# Altium integrated library optocoupler.IntLib: 121 symbols
Pins are listed as number, name and electrical type; pins without a type are passive.

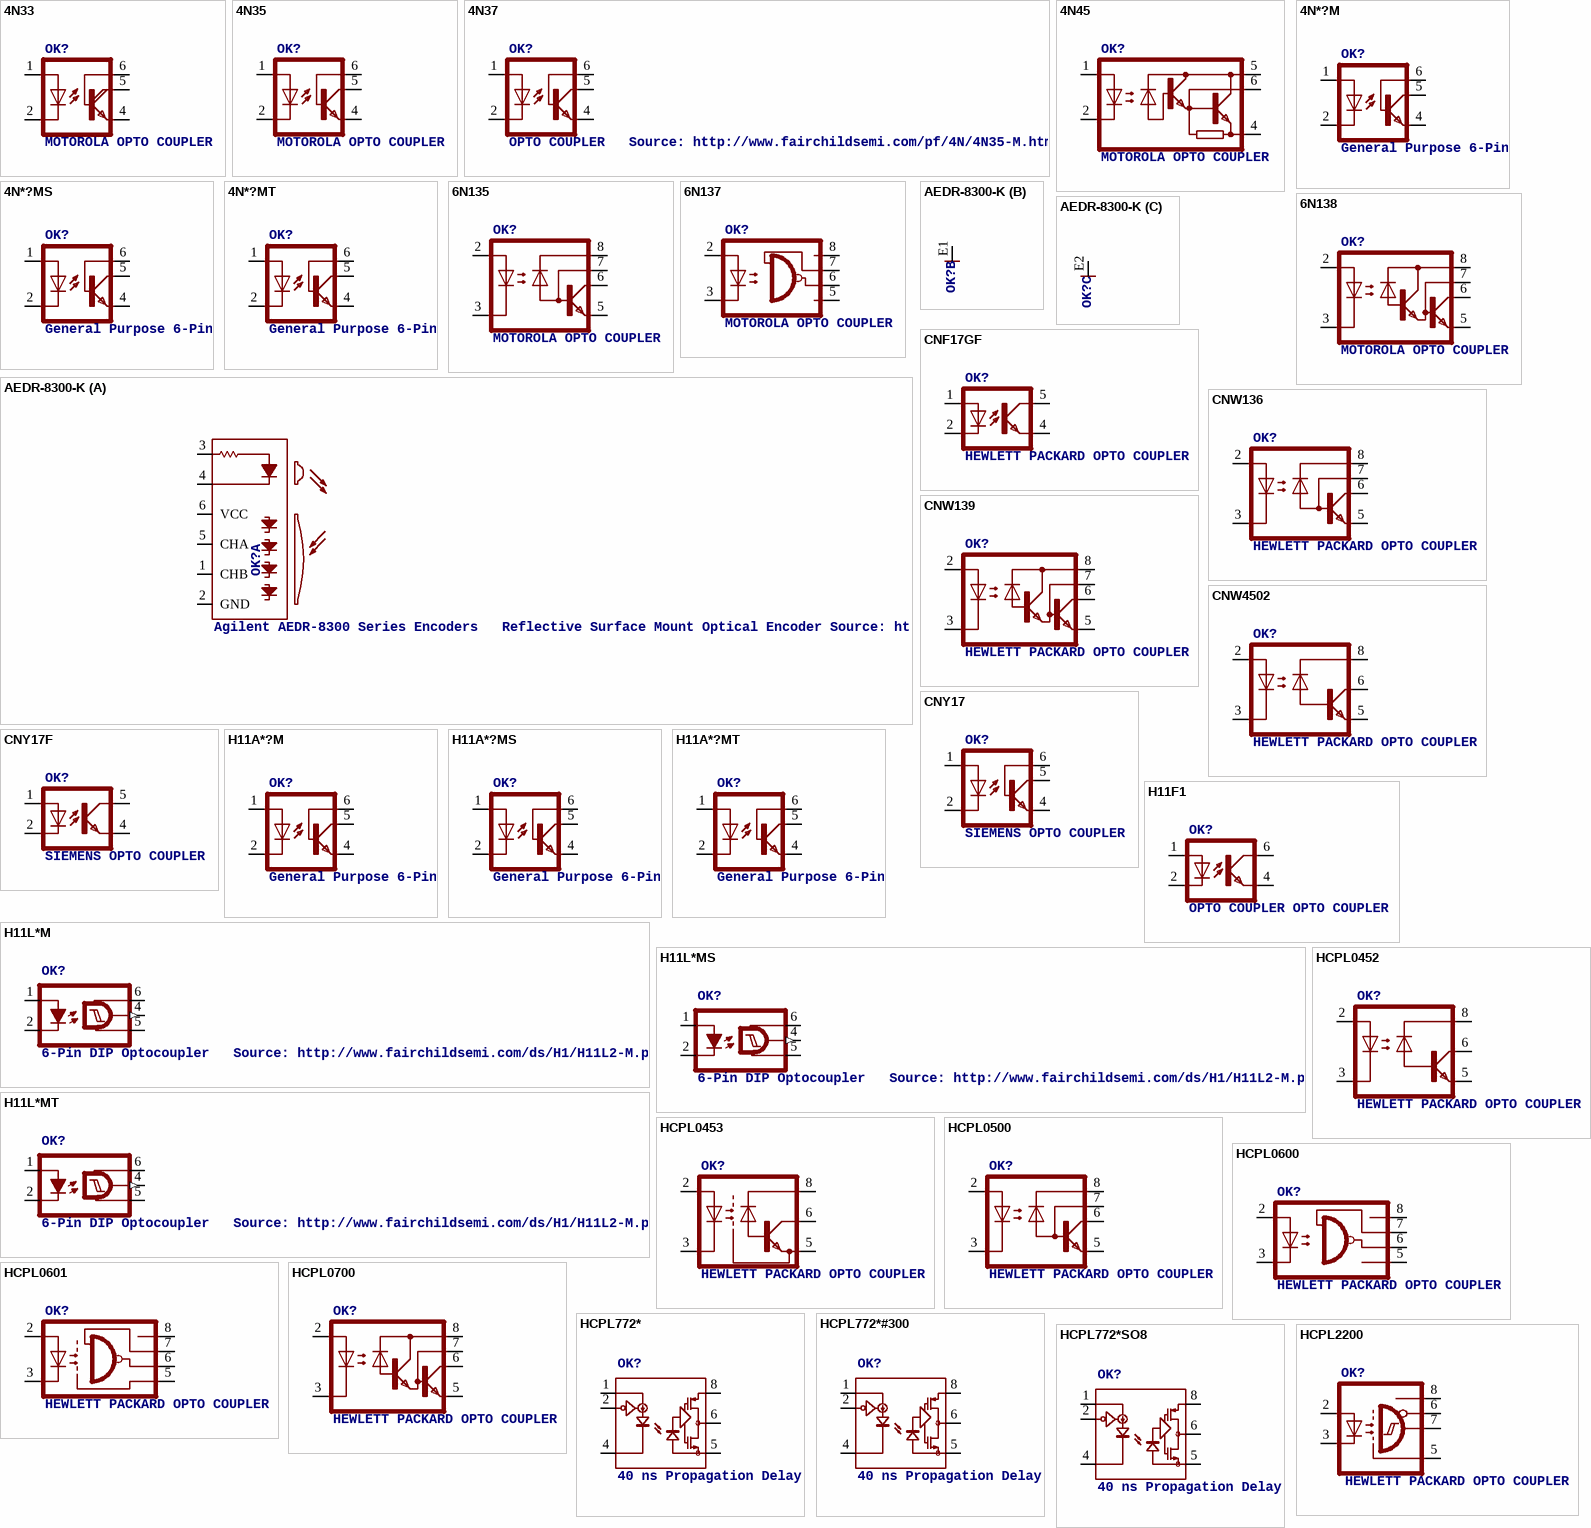
[diagram p0: symbols 4N33 to HCPL2200]

## 4N33
designator OK?, comment MOTOROLA OPTO COUPLER
MPN: 4N33; MF: VISHAY/TELEFUNKEN; OC_FARNELL: 1469601; OC_NEWARK: 88K1390
footprint DIL06
pins: 1 A, 2 C, 4 E, 5 COL, 6 B

## 4N35
designator OK?, comment MOTOROLA OPTO COUPLER
MPN: 4N35; MF: FAIRCHILD SEMICONDUCTOR; OC_FARNELL: 1328375; OC_NEWARK: 72K9946
footprint DIL06
pins: 1 A, 2 C, 4 EMI, 5 COL, 6 BAS

## 4N37
designator OK?, comment OPTO COUPLER   Source: http://www.fairchildsemi.com/pf/4N/4N35-M.html
MPN: 4N37; MF: FAIRCHILD SEMICONDUCTOR; OC_FARNELL: 1612456; OC_NEWARK: 72K9948
footprint DIL06
pins: 1 A, 2 C, 4 EMI, 5 COL, 6 BAS

## 4N45
designator OK?, comment MOTOROLA OPTO COUPLER
MPN: 4N45; MF: AGILENT TECHNOLOGIES; OC_FARNELL: unknown; OC_NEWARK: 09F6959
footprint DIL06
pins: 1 A, 2 C, 4 GND, 5 VO, 6 B

## 4N*?M
designator OK?, comment General Purpose 6-Pin Phototransistor Optocouplers   Source: http://www.fairchildsemi.com/ds/4N/4N35-M.pdf
MPN: 4N25-M; MPN: 4N26-M; MPN: 4N27M; MPN: 4N28-M; MPN: 4N35-M; MPN: 4N36-M; MPN: 4N37-M; MF: FAIRCHILD SEMICONDUCTOR; OC_FARNELL: 1021349; OC_NEWARK: 98K9084; OC_FARNELL: 1021350; OC_NEWARK: 98K9089; OC_FARNELL: unknown; OC_NEWARK: 72K9939; OC_FARNELL: 1504445; OC_NEWARK: 05C3313; OC_FARNELL: 1021351; OC_NEWARK: 98K9114; OC_FARNELL: 1021352; OC_NEWARK: 98K9120; OC_FARNELL: 1021353; OC_NEWARK: 98K9125
footprint DIL06
pins: 1 A, 2 C, 4 EMI, 5 COL, 6 BAS

## 4N*?MS
designator OK?, comment General Purpose 6-Pin Phototransistor Optocouplers   Source: http://www.fairchildsemi.com/ds/4N/4N35-M.pdf
MPN: 4N25SM; MPN: 4N26SM; MPN: 4N27S-M; MPN: 4N28S-M; MPN: 4N35S-M; MPN: 4N36S-M; MPN: 4N37S-M; MF: FAIRCHILD SEMICONDUCTOR; OC_FARNELL: 1021152; OC_NEWARK: 34C2020; OC_FARNELL: 1683383; OC_NEWARK: 40P1118; OC_FARNELL: unknown; OC_NEWARK: 05C3300; OC_NEWARK: 05C3314; OC_FARNELL: 1021179; OC_NEWARK: 67K2285; OC_FARNELL: 1021181; OC_NEWARK: 98K9121; OC_NEWARK: 05C3384
footprint DIL6-SMD
pins: 1 A, 2 C, 4 EMI, 5 COL, 6 BAS

## 4N*?MT
designator OK?, comment General Purpose 6-Pin Phototransistor Optocouplers   Source: http://www.fairchildsemi.com/ds/4N/4N35-M.pdf
MPN: 4N28TM; MPN: 4N35T-M; MPN: 4N37TV-M; MF: FAIRCHILD SEMICONDUCTOR; OC_FARNELL: unknown; OC_NEWARK: unknown; OC_NEWARK: 08H0848; OC_NEWARK: 91B5684; OC_NEWARK: 05C3389
footprint DIL6-04
pins: 1 A, 2 C, 4 EMI, 5 COL, 6 BAS

## 6N135
designator OK?, comment MOTOROLA OPTO COUPLER
MPN: 6N135; MF: FAIRCHILD SEMICONDUCTOR; OC_FARNELL: 1021342; OC_NEWARK: 58K9658
footprint DIL08
pins: 2 A, 3 C, 5 GND, 6 VO, 7 VB, 8 VCC

## 6N137
designator OK?, comment MOTOROLA OPTO COUPLER
MPN: 6N137; OC_FARNELL: 1328376; OC_NEWARK: 52M1895
footprint DIL08
pins: 2 A, 3 C, 5 GND, 6 VO, 7 VE, 8 VCC

## 6N138
designator OK?, comment MOTOROLA OPTO COUPLER
MPN: 6N138; MF: VISHAY/TELEFUNKEN; OC_FARNELL: 9860150; OC_NEWARK: 35K5294
footprint DIL08
pins: 2 A, 3 C, 5 GND, 6 VO, 7 VB, 8 VCC

## AEDR-8300-K
designator OK?, comment Agilent AEDR-8300 Series Encoders   Reflective Surface Mount Optical Encoder Source: http: http://www.avagotech.com .. AV02-0088EN-1.pdf
MPN: AEDR-8300-1P2; MF: AGILENT TECHNOLOGIES; OC_FARNELL: 1161102; OC_NEWARK: 08J1020
footprint AEDR-8300
part A pins: 1 CHB, 2 GND, 3 A, 4 C, 5 CHA, 6 VCC
part B pins: E1 GND (power)
part C pins: E2 GND (power)

## CNF17GF
designator OK?, comment HEWLETT PACKARD OPTO COUPLER
OC_FARNELL: unknown; OC_NEWARK: unknown
footprint DIL06B
pins: 1 A, 2 C, 4 EMIT, 5 COL

## CNW136
designator OK?, comment HEWLETT PACKARD OPTO COUPLER
MPN: HCNW136-000E; MF: AGILENT TECHNOLOGIES; OC_FARNELL: 9994742; OC_NEWARK: 88H7743
footprint DIL08HP4
pins: 2 A, 3 C, 5 GND, 6 VO, 7 VB, 8 VCC

## CNW139
designator OK?, comment HEWLETT PACKARD OPTO COUPLER
MPN: HCNW139-000E; MF: AGILENT TECHNOLOGIES; OC_FARNELL: 232920; OC_NEWARK: 31K6882
footprint DIL08HP4
pins: 2 A, 3 C, 5 GND, 6 VO, 7 VB, 8 VCC

## CNW4502
designator OK?, comment HEWLETT PACKARD OPTO COUPLER
MPN: HCNW4502-000E; MF: AGILENT TECHNOLOGIES; OC_FARNELL: 8549761; OC_NEWARK: 88H7747
footprint DIL08HP4
pins: 2 A, 3 C, 5 GND, 6 VO, 8 VCC

## CNY17
designator OK?, comment SIEMENS OPTO COUPLER
MPN: CNY17-1; OC_FARNELL: 1045399; OC_NEWARK: 05M4044
footprint DIL06
pins: 1 A, 2 C, 4 EMI, 5 COL, 6 BAS

## CNY17F
designator OK?, comment SIEMENS OPTO COUPLER
MPN: CNY17F-3; MF: VISHAY/TELEFUNKEN; OC_FARNELL: 1469473; OC_NEWARK: 58K0172
footprint DIL06
pins: 1 A, 2 C, 4 EMIT, 5 COL

## H11A*?M
designator OK?, comment General Purpose 6-Pin Phototransistor Optocouplers   Source: http://www.fairchildsemi.com/ds/4N/4N35-M.pdf
MPN: H11A1-M; MPN: H11A2M; MPN: H11A3M; MPN: H11A4; MPN: H11A5M; MF: FAIRCHILD SEMICONDUCTOR; MF: VISHAY/TELEFUNKEN; OC_FARNELL: 1021358; OC_NEWARK: 97K1793; OC_FARNELL: 6421362; OC_NEWARK: 84H5960; OC_FARNELL: 1612459; OC_NEWARK: 84H5972; OC_FARNELL: unknown; OC_NEWARK: 58K1623; OC_NEWARK: 84H5984
footprint DIL06
pins: 1 A, 2 C, 4 EMI, 5 COL, 6 BAS

## H11A*?MS
designator OK?, comment General Purpose 6-Pin Phototransistor Optocouplers   Source: http://www.fairchildsemi.com/ds/4N/4N35-M.pdf
OC_FARNELL: unknown; OC_NEWARK: unknown
footprint DIL6-SMD
pins: 1 A, 2 C, 4 EMI, 5 COL, 6 BAS

## H11A*?MT
designator OK?, comment General Purpose 6-Pin Phototransistor Optocouplers   Source: http://www.fairchildsemi.com/ds/4N/4N35-M.pdf
MPN: H11A1TV-M; MF: FAIRCHILD SEMICONDUCTOR; OC_FARNELL: unknown; OC_NEWARK: 05C2394; OC_NEWARK: unknown
footprint DIL6-04
pins: 1 A, 2 C, 4 EMI, 5 COL, 6 BAS

## H11F1
designator OK?, comment OPTO COUPLER OPTO COUPLER
OC_FARNELL: unknown; OC_NEWARK: unknown
footprint DIL05
pins: 1 A, 2 C, 4 EMIT, 6 COL

## H11L*M
designator OK?, comment 6-Pin DIP Optocoupler   Source: http://www.fairchildsemi.com/ds/H1/H11L2-M.pdf
MPN: H11L1-M; MPN: H11L2M; MPN: H11L3-M; MF: FAIRCHILD SEMICONDUCTOR; OC_FARNELL: 1021127; OC_NEWARK: 72K8643; OC_FARNELL: 1021231; OC_NEWARK: 72K8645; OC_FARNELL: 1021233; OC_NEWARK: 72K8646
footprint DIL06
pins: 1 A, 2 C, 4 OUT (out), 5 GND (power), 6 VCC (power)

## H11L*MS
designator OK?, comment 6-Pin DIP Optocoupler   Source: http://www.fairchildsemi.com/ds/H1/H11L2-M.pdf
OC_FARNELL: unknown; OC_NEWARK: unknown
footprint DIL6-SMD
pins: 1 A, 2 C, 4 OUT (out), 5 GND (power), 6 VCC (power)

## H11L*MT
designator OK?, comment 6-Pin DIP Optocoupler   Source: http://www.fairchildsemi.com/ds/H1/H11L2-M.pdf
OC_FARNELL: unknown; OC_NEWARK: unknown
footprint DIL6-04
pins: 1 A, 2 C, 4 OUT (out), 5 GND (power), 6 VCC (power)

## HCPL0452
designator OK?, comment HEWLETT PACKARD OPTO COUPLER
MPN: HCPL0452; MF: FAIRCHILD SEMICONDUCTOR; OC_FARNELL: unknown; OC_NEWARK: 78K5975
footprint SOIC08
pins: 2 A, 3 C, 5 GND, 6 VO, 8 VCC

## HCPL0453
designator OK?, comment HEWLETT PACKARD OPTO COUPLER
MPN: HCPL-0453-000E; MF: AGILENT TECHNOLOGIES; OC_FARNELL: 1505123; OC_NEWARK: 88H7766
footprint SOIC08
pins: 2 A, 3 C, 5 GND, 6 VO, 8 VCC

## HCPL0500
designator OK?, comment HEWLETT PACKARD OPTO COUPLER
MPN: HCPL-0500-000E; MF: AGILENT TECHNOLOGIES; OC_FARNELL: 9995226; OC_NEWARK: 31K6926
footprint SOIC08
pins: 2 A, 3 C, 5 GND, 6 VO, 7 VB, 8 VCC

## HCPL0600
designator OK?, comment HEWLETT PACKARD OPTO COUPLER
MPN: HCPL-0600-000E; MF: AGILENT TECHNOLOGIES; OC_FARNELL: 9994696; OC_NEWARK: 88H7774
footprint SOIC08
pins: 2 A, 3 C, 5 GND, 6 VO, 7 VE, 8 VCC

## HCPL0601
designator OK?, comment HEWLETT PACKARD OPTO COUPLER
MPN: HCPL-0601-000E; MF: AGILENT TECHNOLOGIES; OC_FARNELL: 9995102; OC_NEWARK: 88H7776
footprint SOIC08
pins: 2 A, 3 C, 5 GND, 6 VO, 7 VE, 8 VCC

## HCPL0700
designator OK?, comment HEWLETT PACKARD OPTO COUPLER
MPN: HCPL-0700-000E; MF: AGILENT TECHNOLOGIES; OC_FARNELL: 9995196; OC_NEWARK: 31K6941
footprint SOIC08
pins: 2 A, 3 C, 5 GND, 6 VO, 7 VB, 8 VCC

## HCPL772*
designator OK?, comment 40 ns Propagation Delay, CMOS Optocoupler   *Pin 3 is the anode of the internal LED and must be left unconnected for guaranteed data sheet perfomance. Pin 7 is not connected internally. Source: HCPL7721.pdf
MF: AGILENT TECHNOLOGIES; MPN: HCPL-7720; OC_FARNELL: 143236; OC_NEWARK: 83F5122; MPN: HCPL-7721; OC_FARNELL: 143248; OC_NEWARK: 83F5124
footprint DIL08
pins: 1 VDD1, 2 VI, 4 GND1, 5 GND2, 6 VO, 8 VDD2

## HCPL772*#300
designator OK?, comment 40 ns Propagation Delay, CMOS Optocoupler   *Pin 3 is the anode of the internal LED and must be left unconnected for guaranteed data sheet perfomance. Pin 7 is not connected internally. Source: HCPL7721.pdf
MPN: HCPL-7720-300E; MPN: HCPL-7721-300E; MF: AGILENT TECHNOLOGIES; OC_FARNELL: 1085042; OC_NEWARK: 31K7057; OC_FARNELL: 1085043; OC_NEWARK: 31K7059
footprint SO8-GW300
pins: 1 VDD1, 2 VI, 4 GND1, 5 GND2, 6 VO, 8 VDD2

## HCPL772*SO8
designator OK?, comment 40 ns Propagation Delay, CMOS Optocoupler   *Pin 3 is the anode of the internal LED and must be left unconnected for guaranteed data sheet perfomance. Pin 7 is not connected internally. Source: HCPL7721.pdf
MPN: HCPL-7720-300E; MPN: HCPL-7721-300E; MF: AGILENT TECHNOLOGIES; OC_FARNELL: 1085042; OC_NEWARK: 31K7057; OC_FARNELL: 1085043; OC_NEWARK: 31K7059
footprint SO-8
pins: 1 VDD1, 2 VI, 4 GND1, 5 GND2, 6 VO, 8 VDD2

## HCPL2200
designator OK?, comment HEWLETT PACKARD OPTO COUPLER
MF: AGILENT TECHNOLOGIES; MPN: HCPL-2200; OC_FARNELL: 326720; OC_NEWARK: 06F5425
footprint DIL08
pins: 2 A, 3 C, 5 GND, 6 VE, 7 VO, 8 VCC

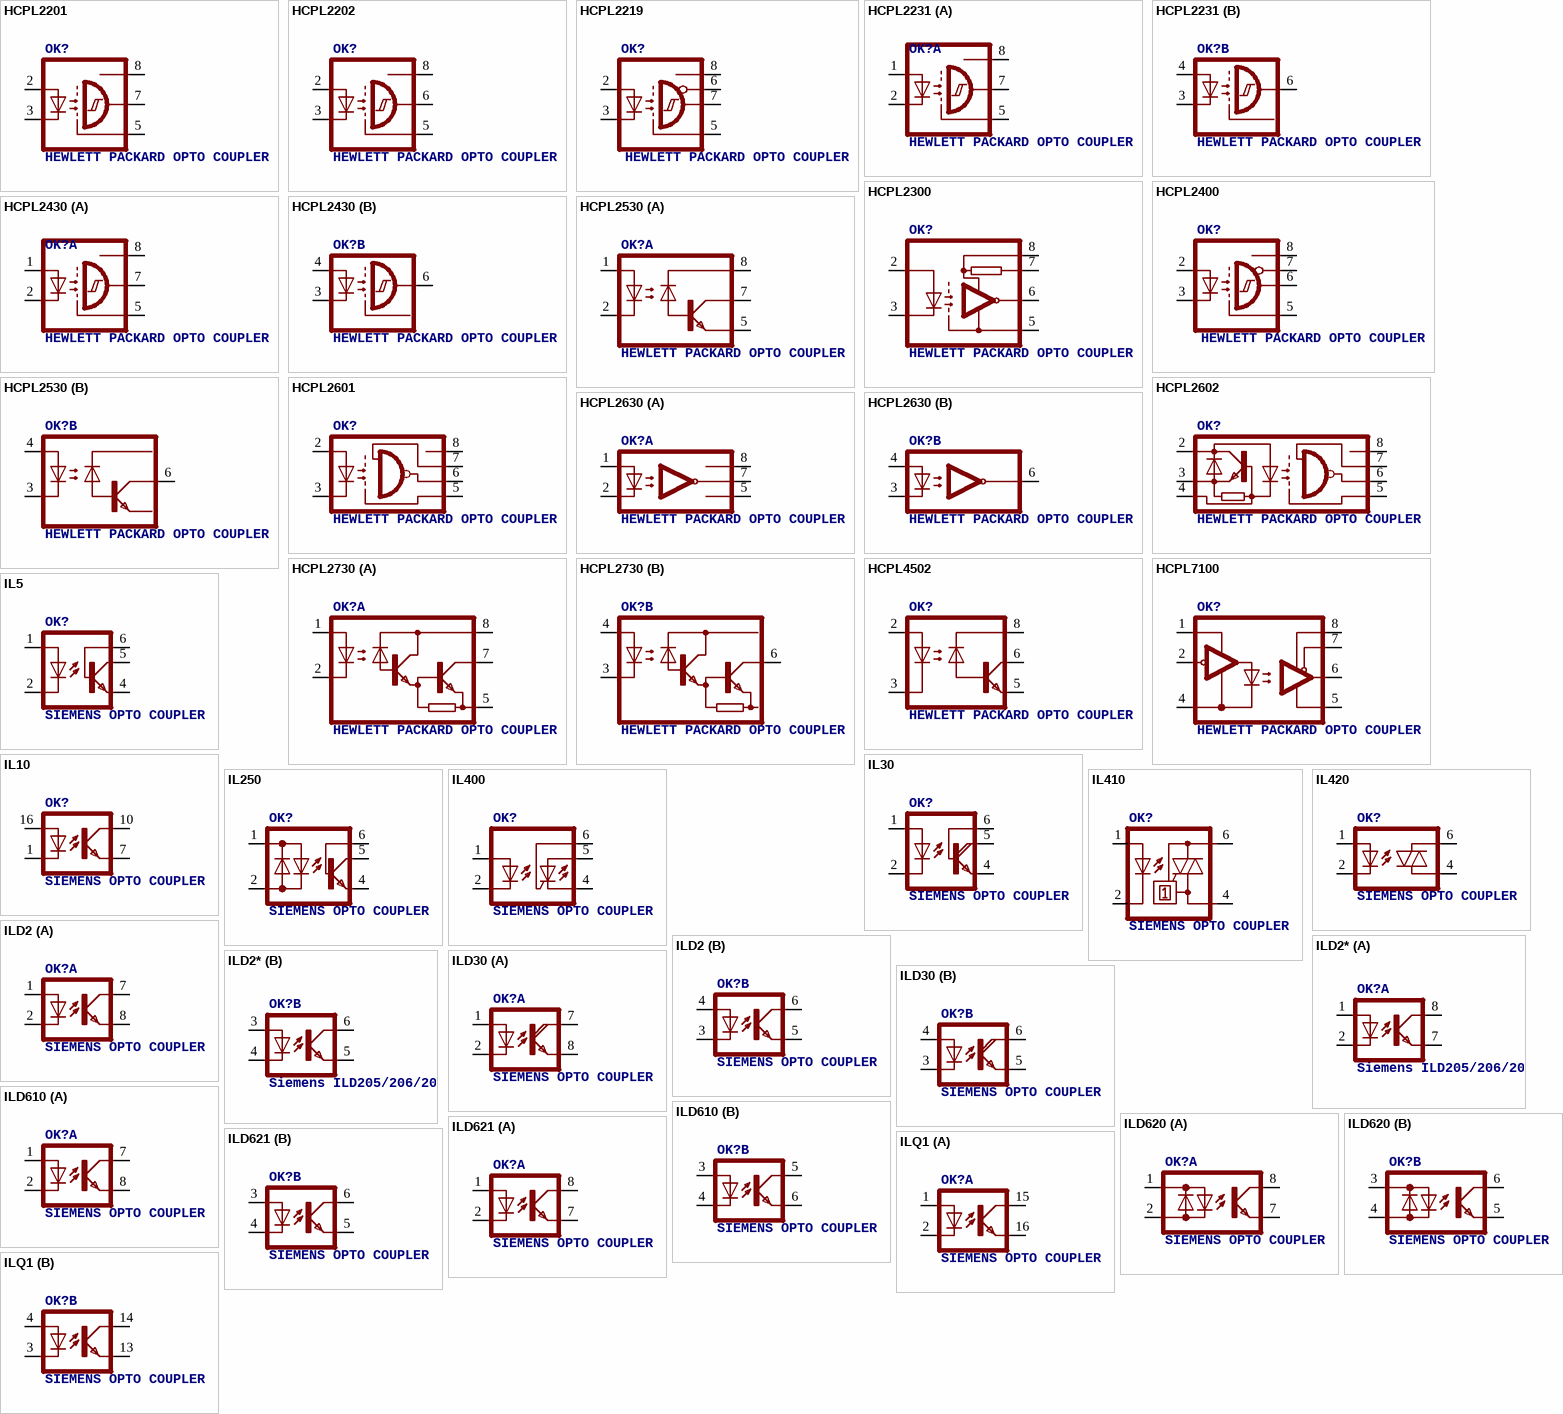
[diagram p1: symbols HCPL2201 to ILQ1]

## HCPL2201
designator OK?, comment HEWLETT PACKARD OPTO COUPLER
MPN: HCPL-2201-000E; MF: AGILENT TECHNOLOGIES; OC_FARNELL: 9994939; OC_NEWARK: 31K6957
footprint DIL08
pins: 2 A, 3 C, 5 GND, 7 OUT, 8 VCC

## HCPL2202
designator OK?, comment HEWLETT PACKARD OPTO COUPLER
MPN: HCPL-2202-000E; MF: AGILENT TECHNOLOGIES; OC_FARNELL: 9995234; OC_NEWARK: 31K6959
footprint DIL08
pins: 2 A, 3 C, 5 GND, 6 OUT, 8 VCC

## HCPL2219
designator OK?, comment HEWLETT PACKARD OPTO COUPLER
MPN: HCPL-2219-000E; MF: AGILENT TECHNOLOGIES; OC_FARNELL: 9995250; OC_NEWARK: 31K6963
footprint DIL08
pins: 2 A, 3 C, 5 GND, 6 VE, 7 VO, 8 VCC

## HCPL2231
designator OK?, comment HEWLETT PACKARD OPTO COUPLER
MPN: HCPL-2231-000E; MF: AGILENT TECHNOLOGIES; OC_FARNELL: 9994955; OC_NEWARK: 88H7801
footprint DIL08
part A pins: 1 A, 2 C, 5 GND, 7 OUT, 8 VCC
part B pins: 3 C, 4 A, 6 OUT

## HCPL2300
designator OK?, comment HEWLETT PACKARD OPTO COUPLER
MPN: HCPL-2300-000E; MF: AGILENT TECHNOLOGIES; OC_FARNELL: 9129855; OC_NEWARK: 88H7805
footprint DIL08
pins: 2 A, 3 C, 5 GND, 6 VO, 7 RL, 8 VCC

## HCPL2400
designator OK?, comment HEWLETT PACKARD OPTO COUPLER
MPN: HCPL-2400-000E; MF: AGILENT TECHNOLOGIES; OC_FARNELL: 9994874; OC_NEWARK: 31K6968
footprint DIL08
pins: 2 A, 3 C, 5 GND, 6 VO, 7 VE, 8 VCC

## HCPL2430
designator OK?, comment HEWLETT PACKARD OPTO COUPLER
MPN: HCPL-2430-000E; MF: AGILENT TECHNOLOGIES; OC_FARNELL: 9129847; OC_NEWARK: 88H7807
footprint DIL08
part A pins: 1 A, 2 C, 5 GND, 7 OUT, 8 VCC
part B pins: 3 C, 4 A, 6 OUT

## HCPL2530
designator OK?, comment HEWLETT PACKARD OPTO COUPLER
MPN: HCPL-2530-000E; MF: AGILENT TECHNOLOGIES; OC_FARNELL: 9994793; OC_NEWARK: 31K6974
footprint DIL08
part A pins: 1 A1, 2 C1, 5 GND, 7 VO1, 8 VCC
part B pins: 3 C2, 4 A2, 6 VO2

## HCPL2601
designator OK?, comment HEWLETT PACKARD OPTO COUPLER
MPN: HCPL-2601-000E; MF: AGILENT TECHNOLOGIES; OC_FARNELL: 9994882; OC_NEWARK: 88H7810
footprint DIL08
pins: 2 A, 3 C, 5 GND, 6 OUT, 7 EN, 8 VCC

## HCPL2602
designator OK?, comment HEWLETT PACKARD OPTO COUPLER
MPN: HCPL-2602-000E; MF: AGILENT TECHNOLOGIES; OC_FARNELL: 9994890; OC_NEWARK: 31K6985
footprint DIL08
pins: 2 +, 3 -, 4 B, 5 GND, 6 OUT, 7 EN, 8 VCC

## HCPL2630
designator OK?, comment HEWLETT PACKARD OPTO COUPLER
MPN: HCPL-2630-000E; MF: AGILENT TECHNOLOGIES; OC_FARNELL: 9994904; OC_NEWARK: 88H7813
footprint DIL08
part A pins: 1 A1, 2 C1, 5 GND, 7 VO1, 8 VCC
part B pins: 3 C2, 4 A2, 6 VO2

## HCPL2730
designator OK?, comment HEWLETT PACKARD OPTO COUPLER
MPN: HCPL-2730-000E; MF: AGILENT TECHNOLOGIES; OC_FARNELL: 9994840; OC_NEWARK: 88H7816
footprint DIL08
part A pins: 1 A1, 2 C1, 5 GND, 7 VO1, 8 VCC
part B pins: 3 C2, 4 A2, 6 VO2

## HCPL4502
designator OK?, comment HEWLETT PACKARD OPTO COUPLER
MPN: HCPL-4502-000E; MF: AGILENT TECHNOLOGIES; OC_FARNELL: 9994777; OC_NEWARK: 31K7017
footprint DIL08
pins: 2 A, 3 C, 5 GND, 6 VO, 8 VCC

## HCPL7100
designator OK?, comment HEWLETT PACKARD OPTO COUPLER
OC_FARNELL: unknown; OC_NEWARK: unknown
footprint DIL08
pins: 1 VDD1, 2 VI, 4 GND1, 5 GND2, 6 VO, 7 VE, 8 VDD2

## IL5
designator OK?, comment SIEMENS OPTO COUPLER
MPN: IL5; MF: VISHAY/TELEFUNKEN; OC_FARNELL: 1020203; OC_NEWARK: 58K1726
footprint DIL06
pins: 1 A, 2 C, 4 EMI, 5 COL, 6 BAS

## IL10
designator OK?, comment SIEMENS OPTO COUPLER
OC_FARNELL: unknown; OC_NEWARK: unknown
footprint DIL16-4_1_7_10_16
pins: 1 C, 7 EMIT, 10 COL, 16 A

## IL30
designator OK?, comment SIEMENS OPTO COUPLER
MPN: IL30; MF: VISHAY/TELEFUNKEN; OC_FARNELL: unknown; OC_NEWARK: 20H8805
footprint DIL06
pins: 1 A, 2 C, 4 E, 5 COL, 6 B

## IL250
designator OK?, comment SIEMENS OPTO COUPLER
MPN: IL250; MF: VISHAY/TELEFUNKEN; OC_FARNELL: 1469559; OC_NEWARK: 58K1705
footprint DIL06
pins: 1 AC1, 2 AC2, 4 E, 5 C, 6 B

## IL400
designator OK?, comment SIEMENS OPTO COUPLER
OC_FARNELL: unknown; OC_NEWARK: unknown
footprint DIL06
pins: 1 A, 2 C, 4 CT, 5 AT, 6 G

## IL410
designator OK?, comment SIEMENS OPTO COUPLER
MPN: IL410; MF: VISHAY/TELEFUNKEN; OC_FARNELL: 1045434; OC_NEWARK: 58K1715
footprint DIL06
pins: 1 A, 2 C, 4 A1, 6 A2

## IL420
designator OK?, comment SIEMENS OPTO COUPLER
MPN: IL420; MF: VISHAY/TELEFUNKEN; OC_FARNELL: 1469561; OC_NEWARK: 58K1719
footprint DIL06
pins: 1 A, 2 C, 4 A1, 6 A2

## ILD2
designator OK?, comment SIEMENS OPTO COUPLER
OC_FARNELL: 1469596; OC_NEWARK: unknown
footprint DIL08
part A pins: 1 A, 2 C, 7 COL, 8 EMIT
part B pins: 3 C, 4 A, 5 EMIT, 6 COL

## ILD2*
designator OK?, comment Siemens ILD205/206/207/211/213/217   DUAL PHOTOTRANSISTOR SMALL OUTLINE SURFACE MOUNT OPTOCOUPLER Source: 153385-da-01-en-Optocoupler_ILD205-T.pdf
MPN: ILD205T; MPN: ILD206T; MPN: ILD207T; MPN: ILD211T; MPN: ILD213T; MPN: ILD217T; MF: VISHAY/TELEFUNKEN; OC_FARNELL: 1469512; OC_NEWARK: 20H8678; OC_FARNELL: 1045450; OC_NEWARK: 01H7271; OC_FARNELL: 1469603; OC_NEWARK: 97C8648; OC_FARNELL: unknown; OC_NEWARK: 20H8679; OC_FARNELL: 1045451; OC_NEWARK: 20H8680; OC_FARNELL: 1469515RL; OC_NEWARK: 20H8681
footprint SOIC08
part A pins: 1 A, 2 C, 7 EMIT, 8 COL
part B pins: 3 A, 4 C, 5 EMIT, 6 COL

## ILD30
designator OK?, comment SIEMENS OPTO COUPLER
MPN: ILD30; MF: VISHAY/TELEFUNKEN; OC_FARNELL: 1612448; OC_NEWARK: 58K1668
footprint DIL08
part A pins: 1 A, 2 C, 7 COL, 8 EMI
part B pins: 3 C, 4 A, 5 EMI, 6 COL

## ILD610
designator OK?, comment SIEMENS OPTO COUPLER
MPN: ILD610-4; MF: VISHAY/TELEFUNKEN; OC_FARNELL: unknown; OC_NEWARK: 20H8702
footprint DIL08
part A pins: 1 A, 2 C, 7 COL, 8 EMIT
part B pins: 3 A, 4 C, 5 COL, 6 EMIT

## ILD620
designator OK?, comment SIEMENS OPTO COUPLER
MPN: ILD620; MF: VISHAY/TELEFUNKEN; OC_FARNELL: 1469558; OC_NEWARK: 58K1676
footprint DIL08
part A pins: 1 AC1, 2 AC2, 7 E, 8 C
part B pins: 3 AC1, 4 AC2, 5 E, 6 C

## ILD621
designator OK?, comment SIEMENS OPTO COUPLER
MPN: ILD621; MF: VISHAY/TELEFUNKEN; OC_FARNELL: 1020151; OC_NEWARK: 58K1678
footprint DIL08
part A pins: 1 A, 2 C, 7 EMIT, 8 COL
part B pins: 3 A, 4 C, 5 EMIT, 6 COL

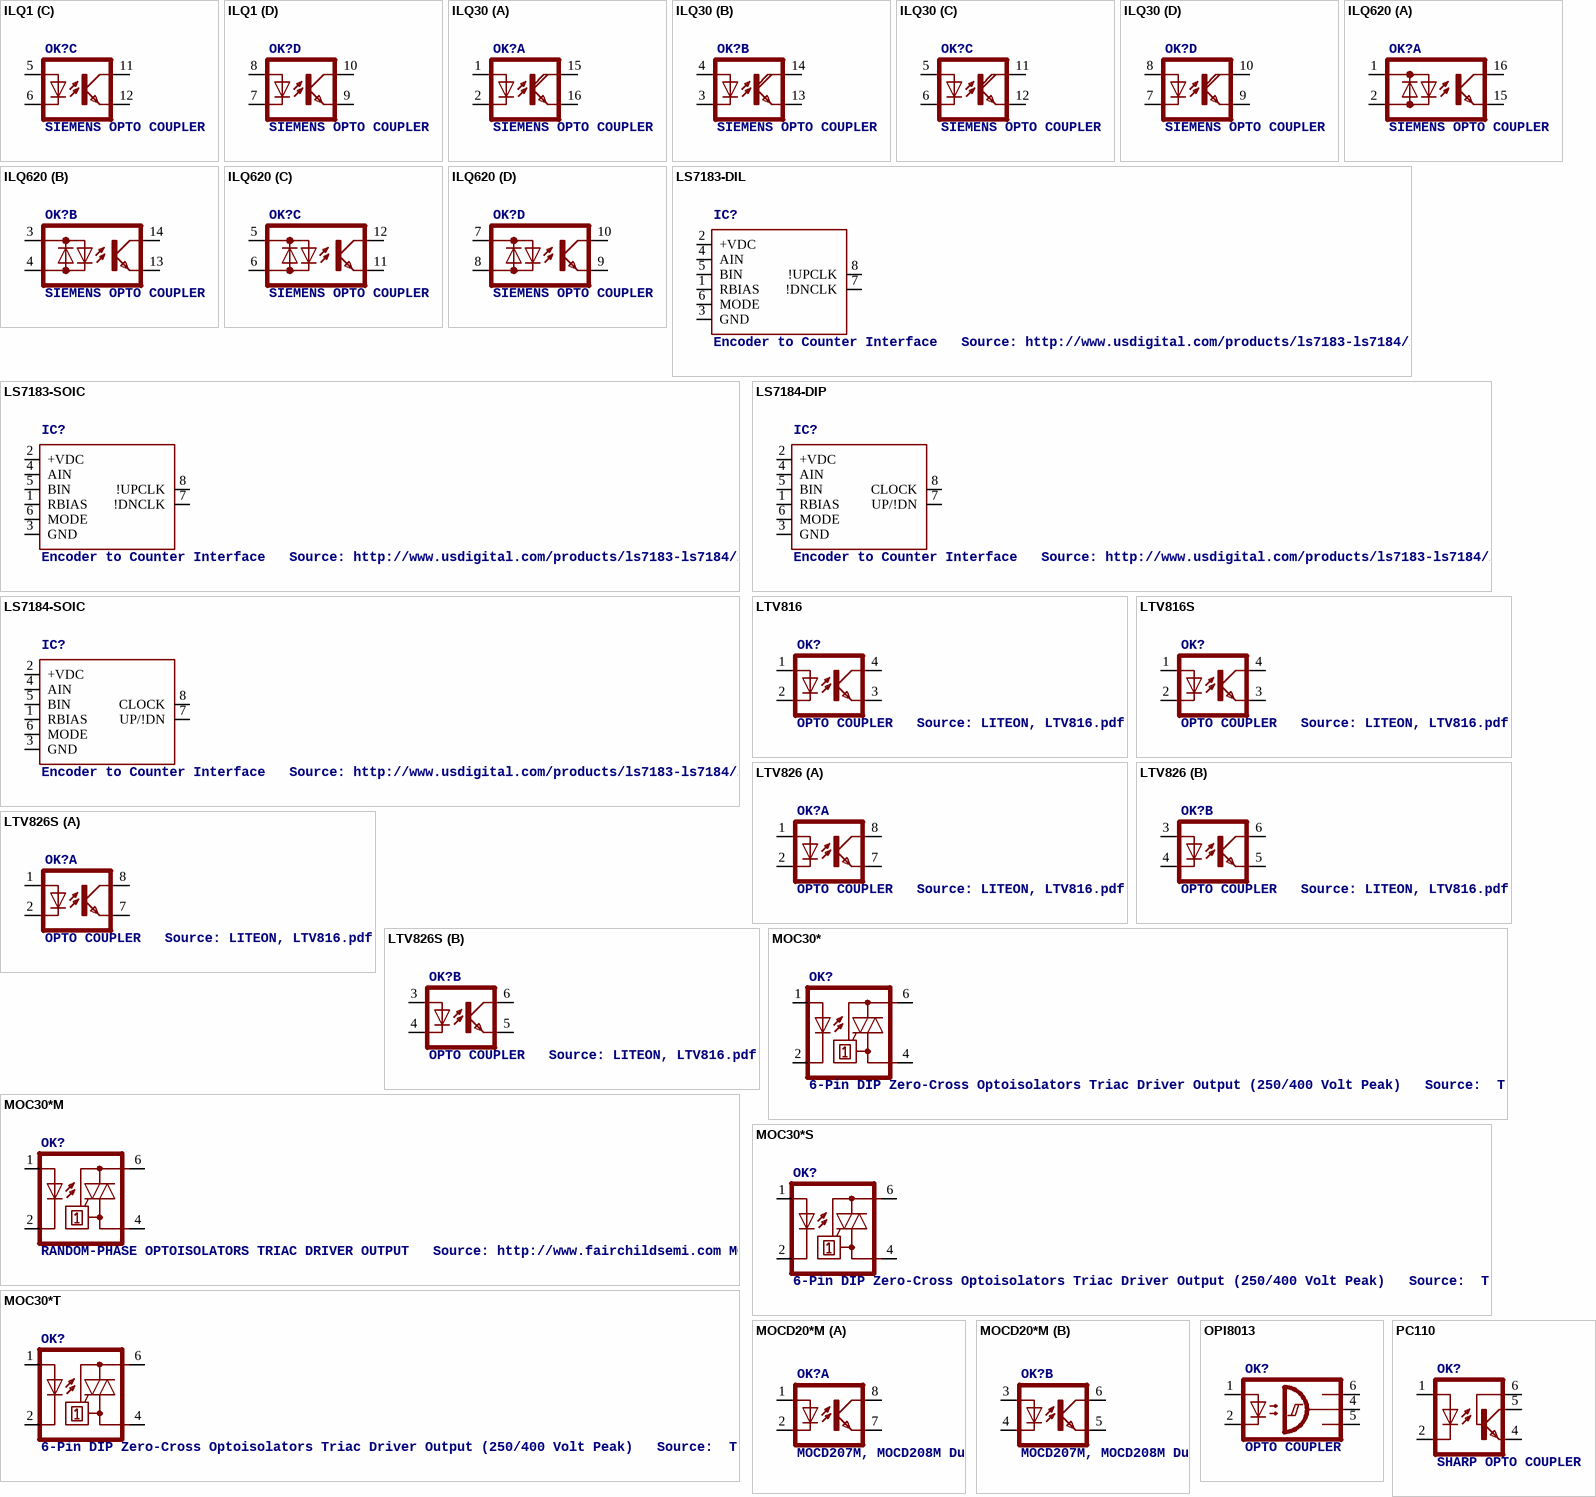
[diagram p2: symbols ILQ1 to PC110]

## ILQ1
designator OK?, comment SIEMENS OPTO COUPLER
MPN: ILQ1; MF: VISHAY/TELEFUNKEN; OC_FARNELL: 1469501; OC_NEWARK: 88K1954
footprint DIL16
part A pins: 1 A, 2 C, 15 COL, 16 EMIT
part B pins: 3 C, 4 A, 13 EMIT, 14 COL
part C pins: 5 A, 6 C, 11 COL, 12 EMIT
part D pins: 7 C, 8 A, 9 EMIT, 10 COL

## ILQ30
designator OK?, comment SIEMENS OPTO COUPLER
MPN: ILQ30; MF: VISHAY/TELEFUNKEN; OC_FARNELL: 1612449; OC_NEWARK: 58K1688
footprint DIL16
part A pins: 1 A, 2 C, 15 COL, 16 EMI
part B pins: 3 C, 4 A, 13 EMI, 14 COL
part C pins: 5 A, 6 C, 11 COL, 12 EMI
part D pins: 7 C, 8 A, 9 EMI, 10 COL

## ILQ620
designator OK?, comment SIEMENS OPTO COUPLER
MPN: ILQ620; MF: VISHAY/TELEFUNKEN; OC_FARNELL: 1612470; OC_NEWARK: 58K1694
footprint DIL16
part A pins: 1 AC1, 2 AC2, 15 E, 16 C
part B pins: 3 AC1, 4 AC2, 13 E, 14 C
part C pins: 5 AC1, 6 AC2, 11 E, 12 C
part D pins: 7 AC1, 8 AC2, 9 E, 10 C

## LS7183-DIL
designator IC?, comment Encoder to Counter Interface   Source: http://www.usdigital.com/products/ls7183-ls7184/ls7183 ls7184 Data Sheet.pdf
OC_FARNELL: unknown; OC_NEWARK: unknown
footprint DIL08
pins: 1 RBIAS, 2 +VDC, 3 GND (power), 4 AIN, 5 BIN, 6 MODE, 7 !DNCLK, 8 !UPCLK

## LS7183-SOIC
designator IC?, comment Encoder to Counter Interface   Source: http://www.usdigital.com/products/ls7183-ls7184/ls7183 ls7184 Data Sheet.pdf
OC_FARNELL: unknown; OC_NEWARK: unknown
footprint SOIC08
pins: 1 RBIAS, 2 +VDC, 3 GND (power), 4 AIN, 5 BIN, 6 MODE, 7 !DNCLK, 8 !UPCLK

## LS7184-DIP
designator IC?, comment Encoder to Counter Interface   Source: http://www.usdigital.com/products/ls7183-ls7184/ls7183 ls7184 Data Sheet.pdf
OC_FARNELL: unknown; OC_NEWARK: unknown
footprint DIL08
pins: 1 RBIAS, 2 +VDC, 3 GND (power), 4 AIN, 5 BIN, 6 MODE, 7 UP/!DN, 8 CLOCK

## LS7184-SOIC
designator IC?, comment Encoder to Counter Interface   Source: http://www.usdigital.com/products/ls7183-ls7184/ls7183 ls7184 Data Sheet.pdf
OC_FARNELL: unknown; OC_NEWARK: unknown
footprint SOIC08
pins: 1 RBIAS, 2 +VDC, 3 GND (power), 4 AIN, 5 BIN, 6 MODE, 7 UP/!DN, 8 CLOCK

## LTV816
designator OK?, comment OPTO COUPLER   Source: LITEON, LTV816.pdf
OC_FARNELL: unknown; OC_NEWARK: unknown
footprint DIL04
pins: 1 A, 2 C, 3 EMIT, 4 COL

## LTV816S
designator OK?, comment OPTO COUPLER   Source: LITEON, LTV816.pdf
OC_FARNELL: unknown; OC_NEWARK: unknown
footprint SMD4
pins: 1 A, 2 C, 3 EMIT, 4 COL

## LTV826
designator OK?, comment OPTO COUPLER   Source: LITEON, LTV816.pdf
OC_FARNELL: unknown; OC_NEWARK: unknown
footprint DIL08
part A pins: 1 A, 2 C, 7 EMIT, 8 COL
part B pins: 3 A, 4 C, 5 EMIT, 6 COL

## LTV826S
designator OK?, comment OPTO COUPLER   Source: LITEON, LTV816.pdf
OC_FARNELL: unknown; OC_NEWARK: unknown
footprint DIL8-SMD
part A pins: 1 A, 2 C, 7 EMIT, 8 COL
part B pins: 3 A, 4 C, 5 EMIT, 6 COL

## MOC30*
designator OK?, comment 6-Pin DIP Zero-Cross Optoisolators Triac Driver Output (250/400 Volt Peak)   Source:  The old path of data sheet not more available 2013-05-06.
MPN: MOC3031M; MPN: MOC3032-M; MPN: MOC3033-M; MPN: MOC3041M; MPN: MOC3042-M; MPN: MOC3043-M; MF: FAIRCHILD SEMICONDUCTOR; OC_FARNELL: 9875964; OC_NEWARK: 78K6089; OC_FARNELL: 1203802; OC_NEWARK: 72K8897; OC_FARNELL: 1133987; OC_NEWARK: 72K8898; OC_FARNELL: 1086677; OC_NEWARK: 78K6090; OC_FARNELL: 1021368; OC_NEWARK: 72K8899; OC_FARNELL: 1021371; OC_NEWARK: 72K8900
footprint DIL06
pins: 1 A, 2 C, 4 A1, 6 A2

## MOC30*M
designator OK?, comment RANDOM-PHASE OPTOISOLATORS TRIAC DRIVER OUTPUT   Source: http://www.fairchildsemi.com MOC3020-M.pdf
MPN: MOC3010-M; MPN: MOC3011-M; MPN: MOC3012-M; MPN: MOC3021-M; MPN: MOC3022-M; MPN: MOC3023-M; MF: FAIRCHILD SEMICONDUCTOR; OC_FARNELL: 1505423; OC_NEWARK: 72K8892; OC_FARNELL: 1021363; OC_NEWARK: 72K8893; OC_FARNELL: 1021364; OC_NEWARK: 72K8894; MPN: MOC3020-M; OC_FARNELL: 1505425; OC_NEWARK: 72K8895; OC_FARNELL: 1021365; OC_NEWARK: 95B7895; OC_FARNELL: 1021086; OC_NEWARK: 58K1956; OC_FARNELL: 1021367; OC_NEWARK: 72K8896
footprint DIL06
pins: 1 A, 2 C, 4 A1, 6 A2

## MOC30*S
designator OK?, comment 6-Pin DIP Zero-Cross Optoisolators Triac Driver Output (250/400 Volt Peak)   Source:  The old path of data sheet not more available 2013-05-06.
MPN: MOC3031SM; MPN: MOC3032S-M; MPN: MOC3033S-M; MPN: MOC3041S-M; MPN: MOC3042SM; MPN: MOC3043SM; MF: FAIRCHILD SEMICONDUCTOR; OC_FARNELL: unknown; OC_NEWARK: 34C1335; OC_NEWARK: 05C2871; OC_NEWARK: 05C2878; OC_NEWARK: 05C2885; OC_NEWARK: 34C1339; OC_FARNELL: 1505441; OC_NEWARK: 78K6091
footprint DIL6-SMD
pins: 1 A, 2 C, 4 A1, 6 A2

## MOC30*T
designator OK?, comment 6-Pin DIP Zero-Cross Optoisolators Triac Driver Output (250/400 Volt Peak)   Source:  The old path of data sheet not more available 2013-05-06.
MPN: MOC3033TV-M; MPN: MOC3043TM; MF: FAIRCHILD SEMICONDUCTOR; OC_FARNELL: unknown; OC_NEWARK: unknown; OC_NEWARK: 05C2883; OC_NEWARK: 34C1342
footprint DIL06B
pins: 1 A, 2 C, 4 A1, 6 A2

## MOCD20*M
designator OK?, comment MOCD207M, MOCD208M Dual Channel Phototransistor Small Outline Surface Mount Optocouplers   Source:  Data sheet
MPN: MOCD207-M; MF: FAIRCHILD SEMICONDUCTOR; OC_FARNELL: 1623297; OC_NEWARK: 67K0803; MPN: MOCD208M; OC_FARNELL: 1505465; OC_NEWARK: 34C7498
footprint SOIC08-FAIRCHILD
part A pins: 1 A, 2 C, 7 EMIT, 8 COL
part B pins: 3 A, 4 C, 5 EMIT, 6 COL

## OPI8013
designator OK?, comment OPTO COUPLER
OC_FARNELL: unknown; OC_NEWARK: unknown
footprint DIL06
pins: 1 A, 2 C, 4 OUT, 5 GND, 6 VCC

## PC110
designator OK?, comment SHARP OPTO COUPLER
OC_FARNELL: unknown; OC_NEWARK: unknown
footprint DIL06
pins: 1 A, 2 C, 4 EMI, 5 COL, 6 BAS

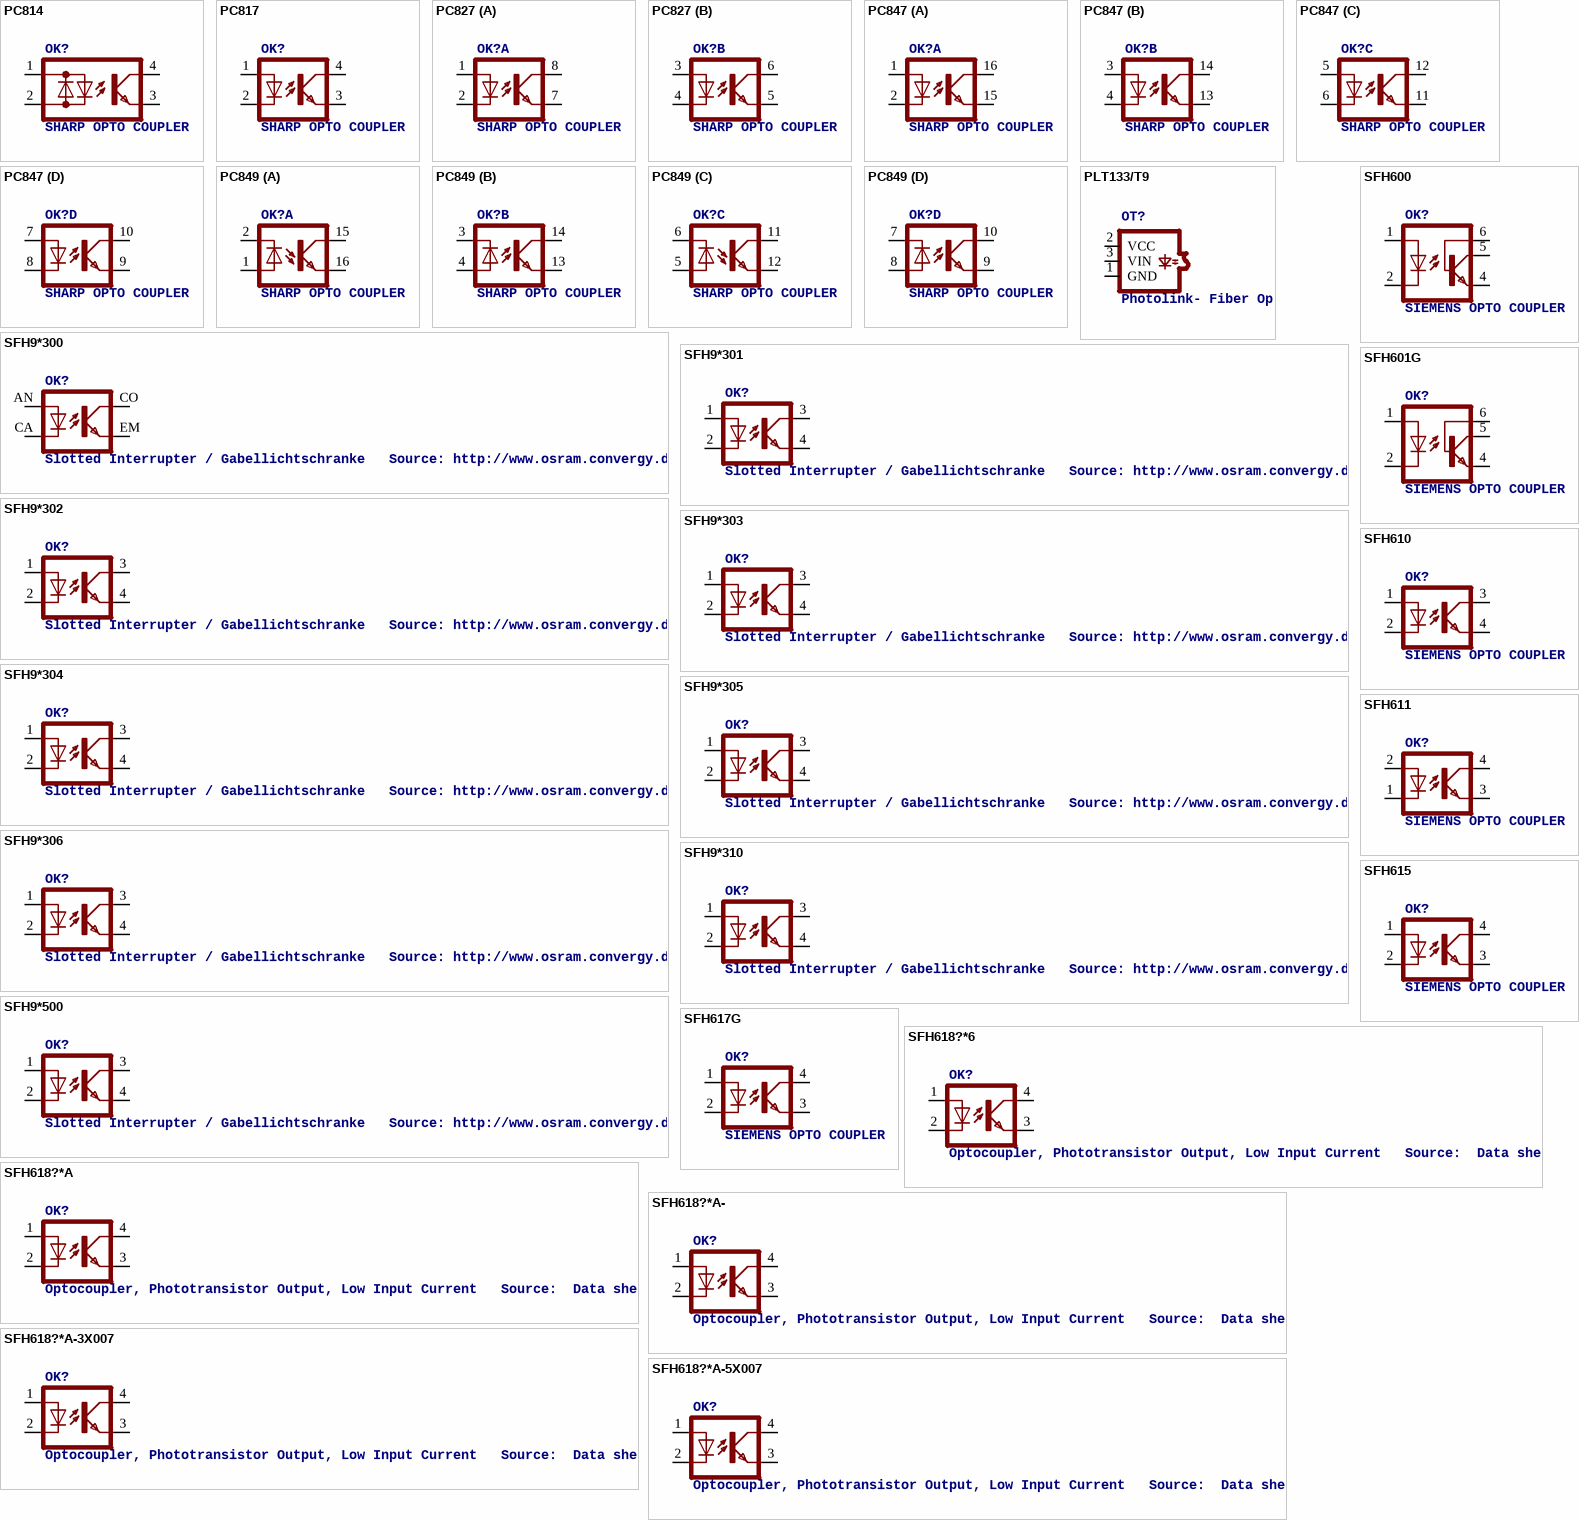
[diagram p3: symbols PC814 to SFH618?*A-5X007]

## PC814
designator OK?, comment SHARP OPTO COUPLER
OC_FARNELL: 9707662; OC_NEWARK: unknown
footprint DIL04
pins: 1 AC1, 2 AC2, 3 E, 4 C

## PC817
designator OK?, comment SHARP OPTO COUPLER
MPN: PC817X4J000F; OC_FARNELL: 9707727; OC_NEWARK: 97K7059
footprint DIL04
pins: 1 A, 2 C, 3 EMIT, 4 COL

## PC827
designator OK?, comment SHARP OPTO COUPLER
OC_FARNELL: unknown; OC_NEWARK: unknown
footprint DIL08
part A pins: 1 A, 2 C, 7 EMIT, 8 COL
part B pins: 3 A, 4 C, 5 EMIT, 6 COL

## PC847
designator OK?, comment SHARP OPTO COUPLER
OC_FARNELL: 9707735; OC_NEWARK: unknown
footprint DIL16
part A pins: 1 A, 2 C, 15 EMIT, 16 COL
part B pins: 3 A, 4 C, 13 EMIT, 14 COL
part C pins: 5 A, 6 C, 11 EMIT, 12 COL
part D pins: 7 A, 8 C, 9 EMIT, 10 COL

## PC849
designator OK?, comment SHARP OPTO COUPLER
OC_FARNELL: unknown; OC_NEWARK: unknown
footprint DIL16
part A pins: 1 A, 2 C, 15 COL, 16 EMI
part B pins: 3 C, 4 A, 13 EMI, 14 COL
part C pins: 5 A, 6 C, 11 COL, 12 EMI
part D pins: 7 C, 8 A, 9 EMI, 10 COL

## PLT133/T9
designator OT?, comment Photolink- Fiber Optic Transmitter   Source: EVERLIGHT Foto_Link_PLT133_T9_datasheet.pdf http://www.everlight.com
footprint PLT133/T9
pins: 1 GND (power), 2 VCC (power), 3 VIN

## SFH9*300
designator OK?, comment Slotted Interrupter / Gabellichtschranke   Source: http://www.osram.convergy.de/
OC_FARNELL: unknown; OC_NEWARK: unknown
footprint SFH9300
pins: AN A, CA C, CO COL, EM EMIT

## SFH9*301
designator OK?, comment Slotted Interrupter / Gabellichtschranke   Source: http://www.osram.convergy.de/
OC_FARNELL: unknown; OC_NEWARK: unknown
footprint SFH9301
pins: 1 A, 2 C, 3 COL, 4 EMIT

## SFH9*302
designator OK?, comment Slotted Interrupter / Gabellichtschranke   Source: http://www.osram.convergy.de/
OC_FARNELL: unknown; OC_NEWARK: unknown
footprint SFH9302
pins: 1 A, 2 C, 3 COL, 4 EMIT

## SFH9*303
designator OK?, comment Slotted Interrupter / Gabellichtschranke   Source: http://www.osram.convergy.de/
OC_FARNELL: unknown; OC_NEWARK: unknown
footprint SFH9303
pins: 1 A, 2 C, 3 COL, 4 EMIT

## SFH9*304
designator OK?, comment Slotted Interrupter / Gabellichtschranke   Source: http://www.osram.convergy.de/
OC_FARNELL: unknown; OC_NEWARK: unknown
footprint SFH9304
pins: 1 A, 2 C, 3 COL, 4 EMIT

## SFH9*305
designator OK?, comment Slotted Interrupter / Gabellichtschranke   Source: http://www.osram.convergy.de/
OC_FARNELL: unknown; OC_NEWARK: unknown
footprint SFH9305
pins: 1 A, 2 C, 3 COL, 4 EMIT

## SFH9*306
designator OK?, comment Slotted Interrupter / Gabellichtschranke   Source: http://www.osram.convergy.de/
OC_FARNELL: unknown; OC_NEWARK: unknown
footprint SFH9306
pins: 1 A, 2 C, 3 COL, 4 EMIT

## SFH9*310
designator OK?, comment Slotted Interrupter / Gabellichtschranke   Source: http://www.osram.convergy.de/
OC_FARNELL: unknown; OC_NEWARK: unknown
footprint SFH9310
pins: 1 A, 2 C, 3 COL, 4 EMIT

## SFH9*500
designator OK?, comment Slotted Interrupter / Gabellichtschranke   Source: http://www.osram.convergy.de/
OC_FARNELL: 1226453RL; OC_NEWARK: unknown
footprint SFH9500
pins: 1 A, 2 C, 3 COL, 4 EMIT

## SFH600
designator OK?, comment SIEMENS OPTO COUPLER
MPN: SFH600-1; MF: VISHAY/TELEFUNKEN; OC_FARNELL: 1469565; OC_NEWARK: 58K2178
footprint DIL06
pins: 1 A, 2 C, 4 EMI, 5 COL, 6 BAS

## SFH601G
designator OK?, comment SIEMENS OPTO COUPLER
MPN: SFH601-4; MF: VISHAY/TELEFUNKEN; OC_FARNELL: 1020348; OC_NEWARK: 58K2184
footprint DIL06B
pins: 1 A, 2 C, 4 EMI, 5 COL, 6 BAS

## SFH610
designator OK?, comment SIEMENS OPTO COUPLER
MPN: SFH6106-4; MF: VISHAY/TELEFUNKEN; OC_FARNELL: 1469568; OC_NEWARK: 58K2193
footprint DIL04
pins: 1 A, 2 C, 3 COL, 4 EMIT

## SFH611
designator OK?, comment SIEMENS OPTO COUPLER
OC_FARNELL: unknown; OC_NEWARK: unknown
footprint DIL04
pins: 1 C, 2 A, 3 EMIT, 4 COL

## SFH615
designator OK?, comment SIEMENS OPTO COUPLER
MPN: SFH615A-2; OC_FARNELL: 1045382; OC_NEWARK: 97K9544
footprint DIL04
pins: 1 A, 2 C, 3 EMIT, 4 COL

## SFH617G
designator OK?, comment SIEMENS OPTO COUPLER
MPN: SFH617A-3; MF: VISHAY/TELEFUNKEN; OC_FARNELL: 1469581; OC_NEWARK: 58K2207
footprint DIL04B
pins: 1 A, 2 C, 3 EMIT, 4 COL

## SFH618?*6
designator OK?, comment Optocoupler, Phototransistor Output, Low Input Current   Source:  Data sheet
MPN: SFH6186-2; MPN: SFH6186-3; MPN: SFH6186-4; MPN: SFH6186-5; MF: VISHAY/TELEFUNKEN; OC_FARNELL: 1469583; OC_NEWARK: 58K2210; OC_FARNELL: 1469529; OC_NEWARK: 21H7751; OC_FARNELL: 1469530; OC_NEWARK: 21H7753; OC_FARNELL: 1469584; OC_NEWARK: 58K2211
footprint SMD4-7
pins: 1 A, 2 C, 3 EMIT, 4 COL

## SFH618?*A
designator OK?, comment Optocoupler, Phototransistor Output, Low Input Current   Source:  Data sheet
MPN: SFH618A-2; MPN: SFH618A-3; MPN: SFH618A-4; MPN: SFH618A-5; MF: VISHAY/TELEFUNKEN; OC_FARNELL: 6424855; OC_NEWARK: 21H7744; OC_FARNELL: 1020374; OC_NEWARK: 58K2209; OC_FARNELL: 5805673; OC_NEWARK: 21H7746; OC_FARNELL: 1469593; OC_NEWARK: 59K0259
footprint DIP4
pins: 1 A, 2 C, 3 EMIT, 4 COL

## SFH618?*A-
designator OK?, comment Optocoupler, Phototransistor Output, Low Input Current   Source:  Data sheet
MPN: SFH618A-3X006; OC_FARNELL: unknown; OC_NEWARK: 43K9541; OC_NEWARK: unknown
footprint DIP4-400
pins: 1 A, 2 C, 3 EMIT, 4 COL

## SFH618?*A-3X007
designator OK?, comment Optocoupler, Phototransistor Output, Low Input Current   Source:  Data sheet
OC_FARNELL: unknown; OC_NEWARK: unknown
footprint SMD4-7
pins: 1 A, 2 C, 3 EMIT, 4 COL

## SFH618?*A-5X007
designator OK?, comment Optocoupler, Phototransistor Output, Low Input Current   Source:  Data sheet
MPN: SFH618A-5X007; OC_FARNELL: unknown; OC_NEWARK: 43K9546
footprint SMD4-7
pins: 1 A, 2 C, 3 EMIT, 4 COL

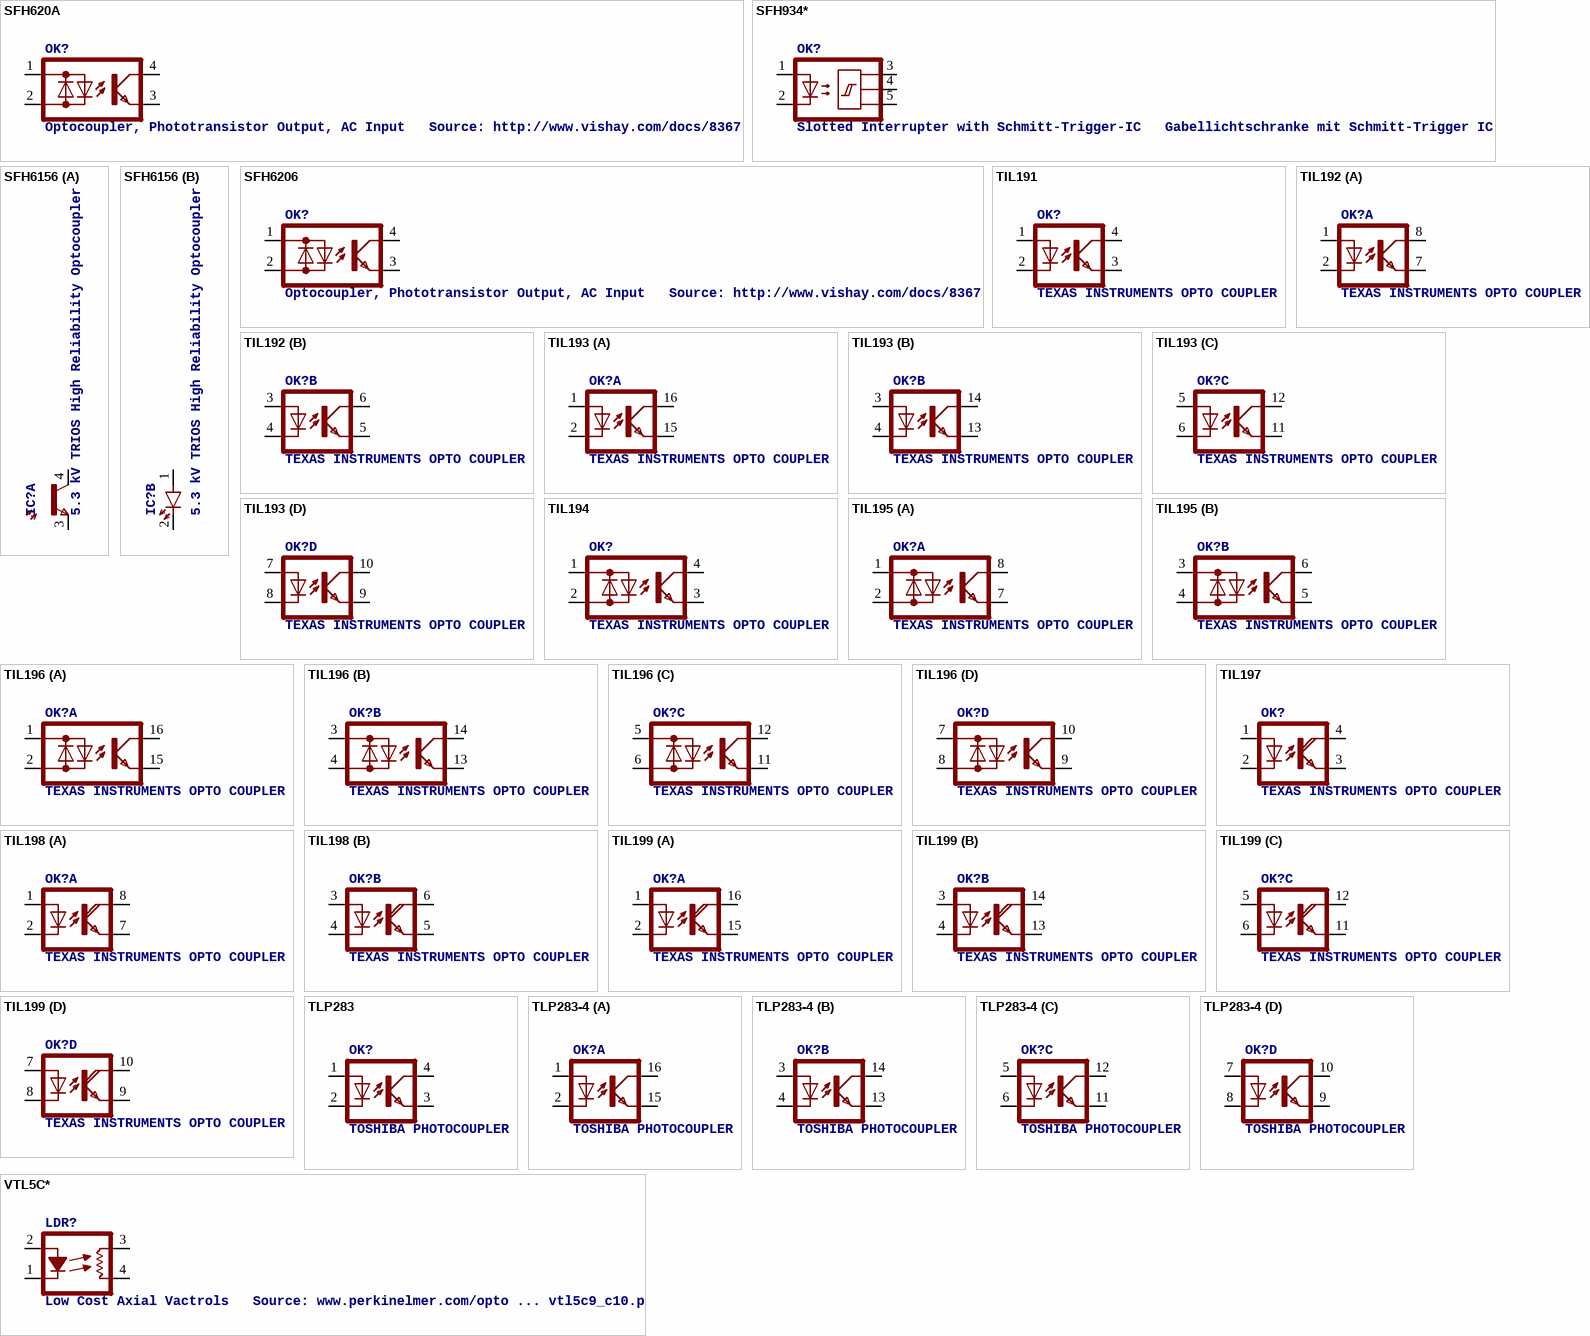
[diagram p4: symbols SFH620A to VTL5C*]

## SFH620A
designator OK?, comment Optocoupler, Phototransistor Output, AC Input   Source: http://www.vishay.com/docs/83675/sfh620.pdf
MPN: SFH620A-2; OC_FARNELL: 1469594; OC_NEWARK: 97K9546
footprint DIL04
pins: 1 AC1, 2 AC2, 3 E, 4 C

## SFH934*
designator OK?, comment Slotted Interrupter with Schmitt-Trigger-IC   Gabellichtschranke mit Schmitt-Trigger IC Source: http://www.osram.convergy.de/ ... sfh9340.pdf
OC_FARNELL: unknown; OC_NEWARK: unknown
footprint SFH9340
pins: 1 A, 2 C, 3 VCC, 4 OUT, 5 GND

## SFH6156
designator IC?, comment 5.3 kV TRIOS High Reliability Optocoupler
MPN: SFH6156-4T; MF: VISHAY/TELEFUNKEN; OC_FARNELL: 1612479; OC_NEWARK: 21H7733
footprint SFH
part A pins: 3 E, 4 C
part B pins: 1 A, 2 K

## SFH6206
designator OK?, comment Optocoupler, Phototransistor Output, AC Input   Source: http://www.vishay.com/docs/83675/sfh620.pdf
MPN: SFH6206-3; MF: VISHAY/TELEFUNKEN; OC_FARNELL: 1469585; OC_NEWARK: 58K2214
footprint DIL4-SMD
pins: 1 AC1, 2 AC2, 3 E, 4 C

## TIL191
designator OK?, comment TEXAS INSTRUMENTS OPTO COUPLER
OC_FARNELL: 1683363; OC_NEWARK: unknown
footprint DIL04
pins: 1 A, 2 C, 3 EMIT, 4 COL

## TIL192
designator OK?, comment TEXAS INSTRUMENTS OPTO COUPLER
OC_FARNELL: 1683364; OC_NEWARK: unknown
footprint DIL08
part A pins: 1 A, 2 C, 7 EMIT, 8 COL
part B pins: 3 A, 4 C, 5 EMIT, 6 COL

## TIL193
designator OK?, comment TEXAS INSTRUMENTS OPTO COUPLER
OC_FARNELL: 1683365; OC_NEWARK: unknown
footprint DIL16
part A pins: 1 A, 2 C, 15 EMIT, 16 COL
part B pins: 3 A, 4 C, 13 EMIT, 14 COL
part C pins: 5 A, 6 C, 11 EMIT, 12 COL
part D pins: 7 A, 8 C, 9 EMIT, 10 COL

## TIL194
designator OK?, comment TEXAS INSTRUMENTS OPTO COUPLER
OC_FARNELL: unknown; OC_NEWARK: unknown
footprint DIL04
pins: 1 AC1, 2 AC2, 3 E, 4 C

## TIL195
designator OK?, comment TEXAS INSTRUMENTS OPTO COUPLER
OC_FARNELL: unknown; OC_NEWARK: unknown
footprint DIL08
part A pins: 1 AC1, 2 AC2, 7 E, 8 C
part B pins: 3 AC1, 4 AC2, 5 E, 6 C

## TIL196
designator OK?, comment TEXAS INSTRUMENTS OPTO COUPLER
MPN: TIL 196; OC_FARNELL: 1683367; OC_NEWARK: 05R6476
footprint DIL16
part A pins: 1 AC1, 2 AC2, 15 E, 16 C
part B pins: 3 AC1, 4 AC2, 13 E, 14 C
part C pins: 5 AC1, 6 AC2, 11 E, 12 C
part D pins: 7 AC1, 8 AC2, 9 E, 10 C

## TIL197
designator OK?, comment TEXAS INSTRUMENTS OPTO COUPLER
OC_FARNELL: 1683368; OC_NEWARK: unknown
footprint DIL04
pins: 1 A, 2 C, 3 EMI, 4 COL

## TIL198
designator OK?, comment TEXAS INSTRUMENTS OPTO COUPLER
OC_FARNELL: unknown; OC_NEWARK: unknown
footprint DIL08
part A pins: 1 A, 2 C, 7 EMI, 8 COL
part B pins: 3 A, 4 C, 5 EMI, 6 COL

## TIL199
designator OK?, comment TEXAS INSTRUMENTS OPTO COUPLER
MPN: TIL 199; OC_FARNELL: 1683370; OC_NEWARK: 05R6483
footprint DIL16
part A pins: 1 A, 2 C, 15 EMI, 16 COL
part B pins: 3 A, 4 C, 13 EMI, 14 COL
part C pins: 5 A, 6 C, 11 EMI, 12 COL
part D pins: 7 A, 8 C, 9 EMI, 10 COL

## TLP283
designator OK?, comment TOSHIBA PHOTOCOUPLER GaAs IRED & PHOTO-TRANSISTOR   Source: http://www.semicon.toshiba.co.jp/td/en/Opto/Photocoupler/en_20050928_TLP283_datasheet.pdf
OC_FARNELL: unknown; OC_NEWARK: unknown
footprint MINI-FLAT-4
pins: 1 A, 2 C, 3 EMIT, 4 COL

## TLP283-4
designator OK?, comment TOSHIBA PHOTOCOUPLER GaAs IRED & PHOTO-TRANSISTOR   Source: http://www.semicon.toshiba.co.jp/td/en/Opto/Photocoupler/en_20050928_TLP283_datasheet.pdf
OC_FARNELL: unknown; OC_NEWARK: unknown
footprint MINI-FLAT-16
part A pins: 1 A, 2 C, 15 EMIT, 16 COL
part B pins: 3 A, 4 C, 13 EMIT, 14 COL
part C pins: 5 A, 6 C, 11 EMIT, 12 COL
part D pins: 7 A, 8 C, 9 EMIT, 10 COL

## VTL5C*
designator LDR?, comment Low Cost Axial Vactrols   Source: www.perkinelmer.com/opto ... vtl5c9_c10.pdf
MPN: VTL5C10; MPN: VTL5C9; MF: VACTEC PHOTO; OC_FARNELL: unknown; OC_NEWARK: 98F3580; OC_FARNELL: 2067857; OC_NEWARK: 95F9033
footprint VTL5C
pins: 1 C, 2 A, 3 L1, 4 L2